# EAGLE library part PIN_HEADER_16 (library icmi-connectors)
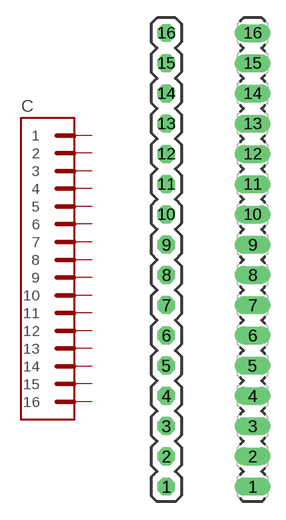
[diagram p0: symbol with the pads of BREAKAWAY_STRAIGHT_16; footprints BREAKAWAY_STRAIGHT_16, BREAKAWAY_STRAIGHT_16_WIDE]

Designator prefix C

## PIN_HEADER_16-STD  [BREAKAWAY_STRAIGHT_16]
1  1
2  2
3  3
4  4
5  5
6  6
7  7
8  8
9  9
10  10
11  11
12  12
13  13
14  14
15  15
16  16

## PIN_HEADER_16-WIDE  [BREAKAWAY_STRAIGHT_16_WIDE]
Pads as for BREAKAWAY_STRAIGHT_16

## Footprint BREAKAWAY_STRAIGHT_16 (pad centres in mm)
drill 1 octagon: 1 0,-20.32; 2 0,-17.78; 3 0,-15.24; 4 0,-12.7; 5 0,-10.16; 6 0,-7.62; 7 0,-5.08; 8 0,-2.54; 9 0,0; 10 0,2.54; 11 0,5.08; 12 0,7.62; 13 0,10.16; 14 0,12.7; 15 0,15.24; 16 0,17.78

## Footprint BREAKAWAY_STRAIGHT_16_WIDE (pad centres in mm)
drill 1 long: 1 0,-20.32; 2 0,-17.78; 3 0,-15.24; 4 0,-12.7; 5 0,-10.16; 6 0,-7.62; 7 0,-5.08; 8 0,-2.54; 9 0,0; 10 0,2.54; 11 0,5.08; 12 0,7.62; 13 0,10.16; 14 0,12.7; 15 0,15.24; 16 0,17.78